# Altium schematic symbol library TL1963A.SchLib: 1 symbol
Pins are listed as number, name and electrical type; pins without a type are passive.

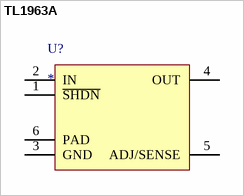
[diagram p0: symbol TL1963A]

## TL1963A
designator U?
pins: 1 ~{SHDN}, 2 IN, 3 GND, 4 OUT, 5 ADJ/SENSE, 6 PAD